# EAGLE library part AP64502Q (library ICs)
The AP64502Q is an automotive-compliant, 5A, synchronous buck converter with a wide input voltage range of 3.8V to 40V. The device fully integrates a 45mΩ high-side power MOSFET and a 20mΩ low-side power MOSFET to provide high-efficiency step-down DC-DC conversion. The AP64502Q device is easily used by minimizing the external component count due to its adoption of peak current mode control along with its integrated loop compensation network. The AP64502Q design is optimized for Electromagnetic Interference (EMI) reduction. The device has a proprietary gate driver scheme to resist switching node ringing without sacrificing MOSFET turn-on and turn-off times, which reduces high-frequency radiated EMI noise caused by MOSFET switching. The AP64502Q also features Frequency Spread Spectrum (FSS) with a switching frequency jitter of ±6%, which reduces EMI by not allowing emitted energy to stay in any one frequency for a significant period of time. The device is available in an SO-8EP package.
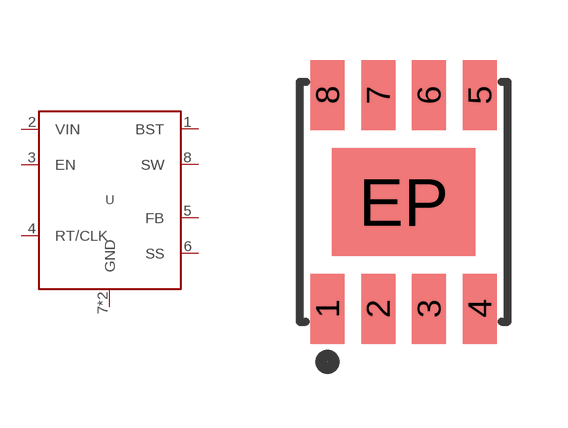
[diagram p46: symbol with the pads of SO-8EP; footprint SO-8EP]

Designator prefix U

## AP64502Q (MFG: Diodes Inc; MPN: AP64502Q)  [SO-8EP]
1  BST
2  VIN
3  EN
4  RT/CLK
5  FB
6  SS
7  GND
8  SW
EP  GND

## Footprint SO-8EP (pad centres in mm)
8-Pin SOIC 208-mil
smd 0.85 x 1.75: 1 -1.905,-2.675; 2 -0.635,-2.675; 3 0.635,-2.675; 4 1.905,-2.675; 5 1.905,2.675; 6 0.635,2.675; 7 -0.635,2.675; 8 -1.905,2.675
smd 3.6 x 2.7: EP 0,0